# Altium schematic symbol library Schlib1.SchLib: 6 symbols
Pins are listed as number, name and electrical type; pins without a type are passive.

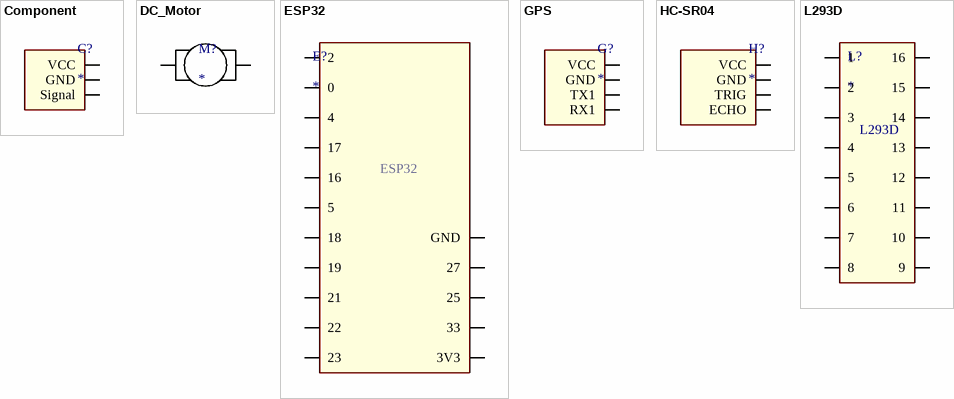
[diagram p0: symbols Component to L293D]

## Component
designator C?
pins: 0 VCC, 1 GND, 2 Signal

## DC_Motor
designator M?
pins: 0, 1

## ESP32
designator E?
pins: 0, 2, 3V3, 4, 5, 16, 17, 18, 19, 21, 22, 23, 25, 27, 33, GND

## GPS
designator G?
pins: 0 VCC, 1 GND, 2 TX1, 3 RX1

## HC-SR04
designator H?
pins: 0 VCC, 1 GND, 2 TRIG, 3 ECHO

## L293D
designator L?
pins: 1, 2, 3, 4, 5, 6, 7, 8, 9, 10, 11, 12, 13, 14, 15, 16